# Altium footprint library TLA2024IRUGR.PcbLib: 1 footprints
Each footprint in its own frame and in the unit in brackets; x right, y up, seen from the top. Pads: shape width x height; smd on the part's side, far side on the other; paste and mask are expansions set on the pad; w line width, h text height; cw(c..) or ccw(c..) is an arc to the next point about the centre after c.
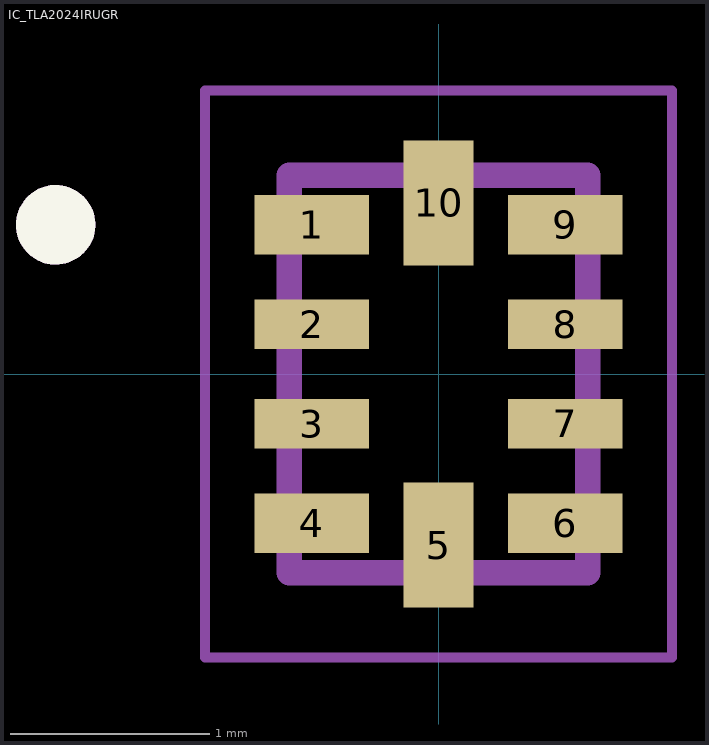
[diagram p0: the footprint, top view; thin cyan lines are the x and y axes]

## IC_TLA2024IRUGR [mm]
pads (10):
  rect 0.575x0.3 smd paste-0.025 mask+0.05: 1(-0.637,0.75) 4(-0.637,-0.75) 6(0.637,-0.75) 9(0.637,0.75)
  rect 0.575x0.25 smd paste-1 mask+0.05: 2(-0.637,0.25) 3(-0.637,-0.25) 7(0.637,-0.25) 8(0.637,0.25)
  rect 0.35x0.63 smd paste-0.025 mask+0.05: 5(0,-0.86) 10(0,0.86)
Top Overlay:
  circle w0.2: c-1.925,0.75 r0.1
Top Paste:
  region: -0.375,0.125 -0.9,0.125 -0.9,0.375 -0.375,0.375
  region: -0.375,-0.375 -0.9,-0.375 -0.9,-0.125 -0.375,-0.125
  region: 0.9,0.125 0.375,0.125 0.375,0.375 0.9,0.375
  region: 0.9,-0.375 0.375,-0.375 0.375,-0.125 0.9,-0.125
Mechanical 13:
  circle w0.2: c-1.925,0.75 r0.1
  lines w0.127: -0.75,-1 -0.75,1 0.75,1 0.75,-1 -0.75,-1
Mechanical 15:
  lines w0.05: -1.175,-1.425 -1.175,1.425 1.175,1.425 1.175,-1.425 -1.175,-1.425
3D body "step_temp.STEP": height 0.4, standoff 0, extent -0.75,-1 0.75,1